# Altium footprint library OSCILLATOR_LIB.PcbLib: 1 footprints
Each footprint in its own frame and in the unit in brackets; x right, y up, seen from the top. Pads: shape width x height; smd on the part's side, far side on the other; paste and mask are expansions set on the pad; w line width, h text height; cw(c..) or ccw(c..) is an arc to the next point about the centre after c.
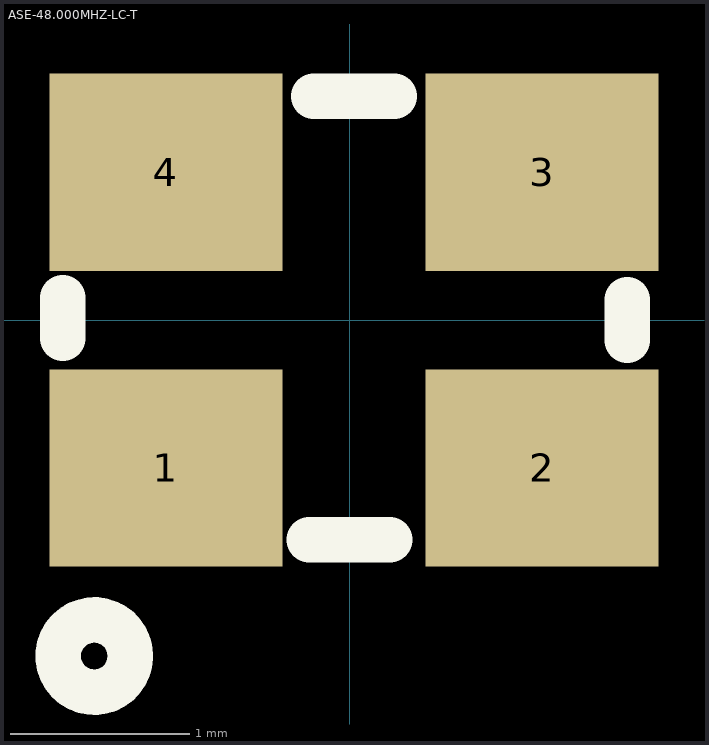
[diagram p0: the footprint, top view; thin cyan lines are the x and y axes]

## ASE-48.000MHZ-LC-T [mm] "OSC XO 48.000MHZ CMOS SMD"
pads (4):
  rect 1.3x1.1 smd: 1(-1.025,-0.825) 2(1.075,-0.825) 3(1.075,0.825) 4(-1.025,0.825)
Top Overlay:
  circle w0.254: c-1.425,-1.875 r0.202
  lines w0.254: -1.6,-0.1 -1.6,0.125 ; -0.225,-1.225 0.225,-1.225 ; -0.2,1.25 0.25,1.25 ; 1.55,-0.113 1.55,0.112